# Altium footprint library LineDrivers.PcbLib: 1 footprints
Each footprint in its own frame and in the unit in brackets; x right, y up, seen from the top. Pads: shape width x height; smd on the part's side, far side on the other; paste and mask are expansions set on the pad; w line width, h text height; cw(c..) or ccw(c..) is an arc to the next point about the centre after c.
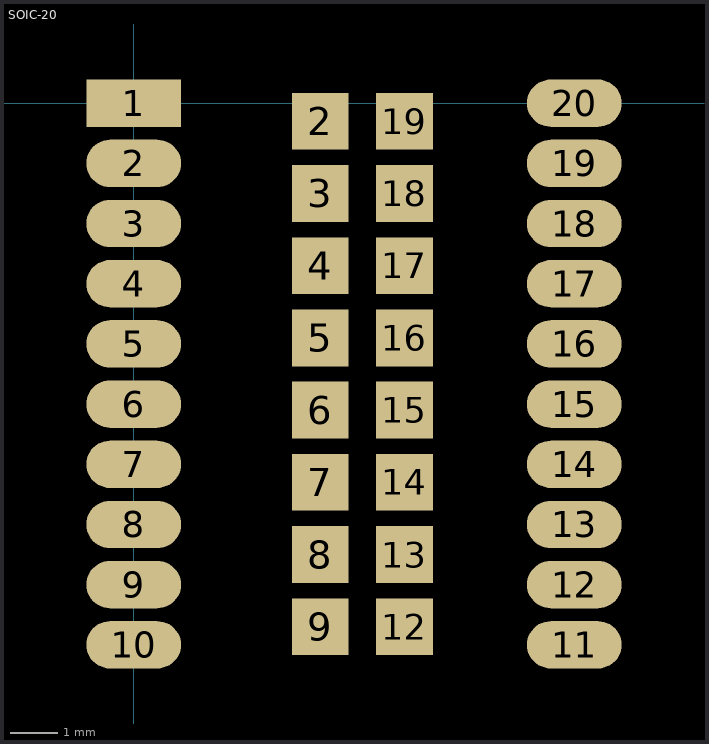
[diagram p0: the footprint, top view; thin cyan lines are the x and y axes]

## SOIC-20 [mm]
pads (36):
  rect 2x1 smd: 1(0,0)
  oval 2x1 smd: 2(0,-1.27) 3(0,-2.54) 4(0,-3.81) 5(0,-5.08) 6(0,-6.35) 7(0,-7.62) 8(0,-8.89) 9(0,-10.16) 10(0,-11.43) 11(9.3,-11.43) 12(9.3,-10.16) 13(9.3,-8.89) 14(9.3,-7.62) 15(9.3,-6.35) 16(9.3,-5.08) 17(9.3,-3.81) 18(9.3,-2.54) 19(9.3,-1.27) 20(9.3,0)
  rect 1.2x1.2 smd: 2(3.937,-0.381) 3(3.937,-1.905) 4(3.937,-3.429) 5(3.937,-4.953) 6(3.937,-6.477) 7(3.937,-8.001) 8(3.937,-9.525) 9(3.937,-11.049) 12(5.715,-11.049) 13(5.715,-9.525) 14(5.715,-8.001) 15(5.715,-6.477) 16(5.715,-4.953) 17(5.715,-3.429) 18(5.715,-1.905) 19(5.715,-0.381)